# Altium schematic symbol library ICL_komponenty_v1.SchLib: 294 symbols (part 2 of 2)
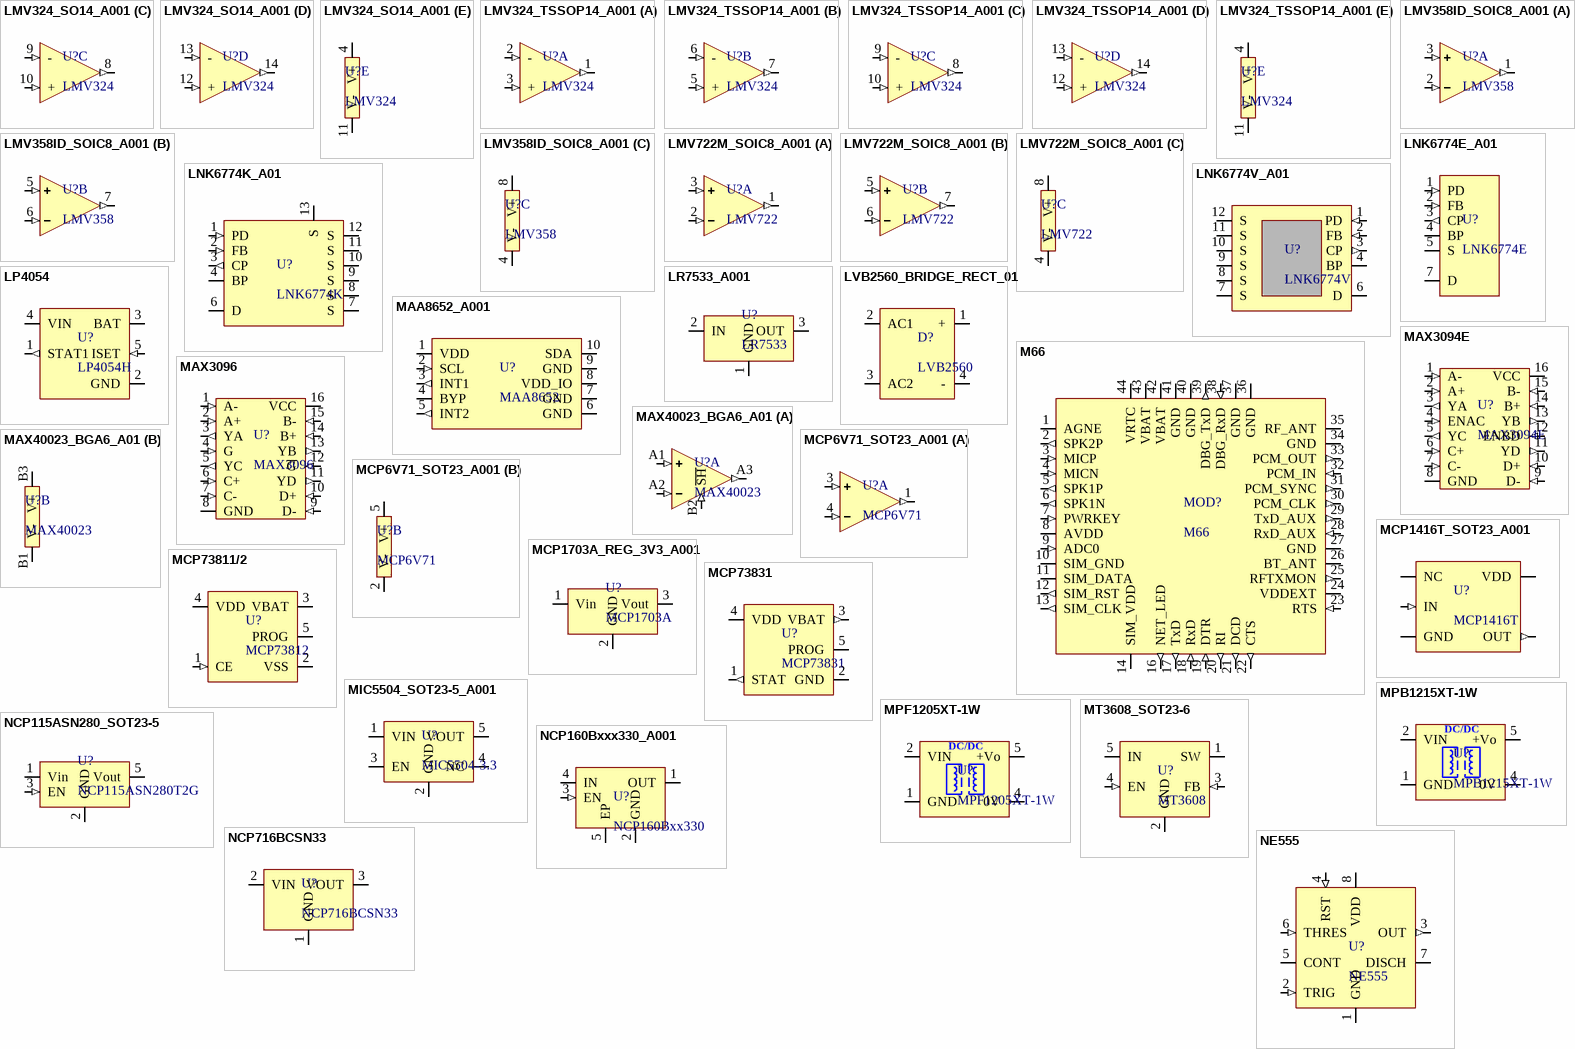
[diagram p12: symbols LMV324_SO14_A001 to NE555]

## LMV324_SO14_A001
designator U?, comment LMV324
4 x OpAmp R/R 1MHz; ICLN: IC_LMV324_SO14_A001
footprint SO-14
part A pins: 1 OUT (out), 2 - (in), 3 + (in)
part B pins: 5 + (in), 6 - (in), 7 OUT (out)
part C pins: 8 OUT (out), 9 - (in), 10 + (in)
part D pins: 12 + (in), 13 - (in), 14 OUT (out)
part E pins: 4 V+ (power), 11 V-

## LMV324_TSSOP14_A001
designator U?, comment LMV324
4 x OpAmp R/R 1MHz; ICLN: IC_LMV324_TSSOP14_A001
footprint TSSOP-14
part A pins: 1 OUT (out), 2 - (in), 3 + (in)
part B pins: 5 + (in), 6 - (in), 7 OUT (out)
part C pins: 8 OUT (out), 9 - (in), 10 + (in)
part D pins: 12 + (in), 13 - (in), 14 OUT (out)
part E pins: 4 V+ (power), 11 V-

## LMV358ID_SOIC8_A001
designator U?, comment LMV358
Low cost, low power, input/output rail-to-rail operational / amplifiers; ICLN: IC_LMV358ID_SOIC8_A001
footprint SO-8
part A pins: 1 1OUT (out), 2 1IN- (in), 3 1IN+ (in)
part B pins: 5 1IN+ (in), 6 1IN- (in), 7 1OUT (out)
part C pins: 4 V-, 8 V+ (power)

## LMV722M_SOIC8_A001
designator U?, comment LMV722
Low cost, low power, input/output rail-to-rail operational / amplifiers; ICLN: IC_LMV722N_SOIC8_A001
footprint SO-8
part A pins: 1 1OUT (out), 2 1IN- (in), 3 1IN+ (in)
part B pins: 5 1IN+ (in), 6 1IN- (in), 7 1OUT (out)
part C pins: 4 V-, 8 V+ (power)

## LNK6774E_A01
designator U?, comment LNK6774E
ICLN: IC_LNK6773E_eSOP_A001
footprint eSIP-7C
pins: 1 PD (in), 2 FB (in), 3 CP (out), 4 BP, 5 S, 7 D

## LNK6774K_A01
designator U?, comment LNK6774K
ICLN: IC_LNK6773K_eSOP_A001
footprint eSOP-12B
pins: 1 PD (in), 2 FB (in), 3 CP (out), 4 BP, 6 D, 7 S, 8 S, 9 S, 10 S, 11 S, 12 S, 13 S

## LNK6774V_A01
designator U?, comment LNK6774V
ICLN: IC_LNK6773V_eDIP_A001
footprint eDIP-12B
pins: 1 PD (in), 2 FB (in), 3 CP (out), 4 BP, 6 D, 7 S, 8 S, 9 S, 10 S, 11 S, 12 S

## LP4054
designator U?, comment LP4054H
Standalone Linear Li-Ion Battery Charger 500mA; ICLN: IC_LP4054H_SOT23-5_A001
footprint SOT-23-5
pins: 1 STAT1 (out), 2 GND, 3 BAT (power), 4 VIN (power), 5 ISET (in)

## LR7533_A001
designator U?, comment LR7533
3V3 LDO low IQ
footprint SOT89-3
pins: 1 GND, 2 IN, 3 OUT

## LVB2560_BRIDGE_RECT_01
designator D?, comment LVB2560
Bridge rect. 25A  600V; ICLN: D_DR_25A_600V_THT_GSIB-5S_A001
footprint GSIB-5S-45 (dridge rectifier 45 degry)
pins: 1 +, 2 AC1, 3 AC2, 4 -

## M66
designator MOD?
Quectel M66; ITSN: MOD_GSM_M66_A001
footprint M66
pins: 1 AGNE (power), 2 SPK2P (out), 3 MICP (in), 4 MICN (in), 5 SPK1P (out), 6 SPK1N (out), 7 PWRKEY (in), 8 AVDD (power), 9 ADC0 (in), 10 SIM_GND (power), 11 SIM_DATA (io), 12 SIM_RST (out), 13 SIM_CLK (out), 14 SIM_VDD (power), 16 NET_LED (out), 17 TxD (out), 18 RxD (in), 19 DTR (in), 20 RI (out), 21 DCD (out), 22 CTS (out), 23 RTS (in), 24 VDDEXT (power), 25 RFTXMON (out), 26 BT_ANT, 27 GND (power), 28 RxD_AUX (in), 29 TxD_AUX (out), 30 PCM_CLK (out), 31 PCM_SYNC (out), 32 PCM_IN (in), 33 PCM_OUT (out), 34 GND (power), 35 RF_ANT, 36 GND (power), 37 GND (power), 38 DBG_RxD (in), 39 DBG_TxD (out), 40 GND (power), 41 GND (power), 42 VBAT (power), 43 VBAT (power), 44 VRTC (power)

## MAA8652_A001
designator U?, comment MAA8652
ITSN: IC_KX003_LGA12_A001
footprint DFN-10_ACC (PQFN, 10-Leads, Body 2,00x2,00mm, Pitch 0,40mm, Thermal Pad 0,50x0,50mm, IPC Medium Density)
pins: 1 VDD (power), 2 SCL (in), 3 INT1 (out), 4 BYP, 5 INT2 (out), 6 GND (power), 7 GND (power), 8 VDD_IO (power), 9 GND (power), 10 SDA (io)

## MAX3094E
designator U?
RS422 3v3 SUPPLY
footprint SO-16 (SOIC, 16-Leads, Body 10,0x4,0mm (max), Pitch 1,27mm, IPC Low Density)
pins: 1 A- (in), 2 A+ (in), 3 YA (out), 4 ENAC (in), 5 YC (out), 6 C+ (in), 7 C- (in), 8 GND (power), 9 D- (in), 10 D+ (in), 11 YD (out), 12 ENBD (in), 13 YB (out), 14 B+ (in), 15 B- (in), 16 VCC (power)

## MAX3096
designator U?
RS422 3V3 SUPPLY; ICLN: IC_MAX3096_SO16_A001
footprint SO-16 (SOIC, 16-Leads, Body 10,0x4,0mm (max), Pitch 1,27mm, IPC Low Density)
pins: 1 A- (in), 2 A+ (in), 3 YA (out), 4 G (in), 5 YC (out), 6 C+ (in), 7 C- (in), 8 GND (power), 9 D- (in), 10 D+ (in), 11 YD (out), 12 ~{G} (in), 13 YB (out), 14 B+ (in), 15 B- (in), 16 VCC (power)

## MAX40023_BGA6_A01
designator U?, comment MAX40023
Low-Noise, Low-Power, Low-Bias-Current Amplifiers; ICLN: IC_MAX40023_BGA6_A01
footprint BGA-6_MAXIM
part A pins: A1 1IN+ (in), A2 1IN- (in), A3 1OUT (out), B2 ~{SH} (in)
part B pins: B1 V-, B3 V+ (power)

## MCP6V71_SOT23_A001
designator U?, comment MCP6V71
2 MHz Zero-Drift Op Amps,  Rail-to-Rail Input/Output; ICLN: IC_MCP6V71_SOT23_A001
footprint SOT-23-5
part A pins: 1 1OUT (out), 3 1IN+ (in), 4 1IN- (in)
part B pins: 2 V-, 5 V+ (power)

## MCP1416T_SOT23_A001
designator U?, comment MCP1416T
High speed power MOSFET driver; ITSN: IC_MCP1416_SOT23_A001
footprint SOT-23-5
pins: 1 NC, 2 VDD (power), 3 IN (in), 4 GND (power), 5 OUT (out)

## MCP1703A_REG_3V3_A001
designator U?, comment MCP1703A
LDO Vdrop<600mV, SOT-223, 500mA, Iq = 2uA; ITSN: IC_SPX3819_SOT23-5_A001
footprint SOT-223
pins: 1 Vin, 2 GND, 3 Vout

## MCP73811/2
designator U?, comment MCP73812
single cell Li-Ion Li-Poly linear baterry charger; ITSN: IC_MCP73812_SOT23-5_A001
footprint SOT-23-5
pins: 1 CE (in), 2 VSS (power), 3 VBAT, 4 VDD (power), 5 PROG

## MCP73831
designator U?
500 mA Li-Ion Battery Charge; ITSN: IC_MCP73831_SOT23-5_A001
footprint SOT-23-5
pins: 1 STAT (out), 2 GND (power), 3 VBAT (out), 4 VDD (power), 5 PROG

## MIC5504_SOT23-5_A001
designator U?, comment MIC5504-3.3
Multi komponent 2.2-3.3 V 100mA Iq<65uA; ITSN: IC_LIN_REG_MULTI_SOT23-5_A001
footprint SOT-23-5
pins: 1 VIN (power), 2 GND (power), 3 EN (power), 4 NC, 5 VOUT (power)

## MPB1215XT-1W
designator U?
Isolated DCDC 12V-15V; ICLN: DCDC_MPB1215XT-1W_A001
footprint MPFxxxxXT-1W (MPF MPB isolated DC-DC converter)
pins: 1 GND (power), 2 VIN (power), 4 0V (power), 5 +Vo (power)
text: DC/DC

## MPF1205XT-1W
designator U?
Isolated DCDC 12V-5V; ICLN: DCDC_MPF1205XT-1W_A001
footprint MPFxxxxXT-1W (MPF MPB isolated DC-DC converter)
pins: 1 GND (power), 2 VIN (power), 4 0V (power), 5 +Vo (power)
text: DC/DC

## MT3608_SOT23-6
designator U?, comment MT3608
Boost MT3608; ICLN: IC_MT3608_SOT23-6_A001
footprint SOT23-6 (Zetex)
pins: 1 SW, 2 GND, 3 FB (in), 4 EN (in), 5 IN

## NCP115ASN280_SOT23-5
designator U?, comment NCP115ASN280T2G
2V8 LDO; ICLN: IC_NCP115ASN280T2G_SOT32-5_A001
footprint SOT-23-5
pins: 1 Vin, 2 GND, 3 EN (in), 5 Vout

## NCP160Bxxx330_A001
designator U?, comment NCP160Bxx330
Low drop low noise LDO 3V3; ICLN: IC_NCP160BFCS330_A001
footprint XDFN4
pins: 1 OUT (power), 2 GND, 3 EN (in), 4 IN (power), 5 EP

## NCP716BCSN33
designator U?
ICLN: IC_NCP716BCSN33_SOT23-5_A001
footprint SOT-23-5
pins: 1 GND (power), 2 VIN (power), 3 VOUT (power)

## NE555
designator U?
ITSN: IC_NE555_SO8_A001
footprint SO-8
pins: 1 GND (power), 2 TRIG (in), 3 OUT (out), 4 RST (in), 5 CONT, 6 THRES (in), 7 DISCH (oc), 8 VDD (power)

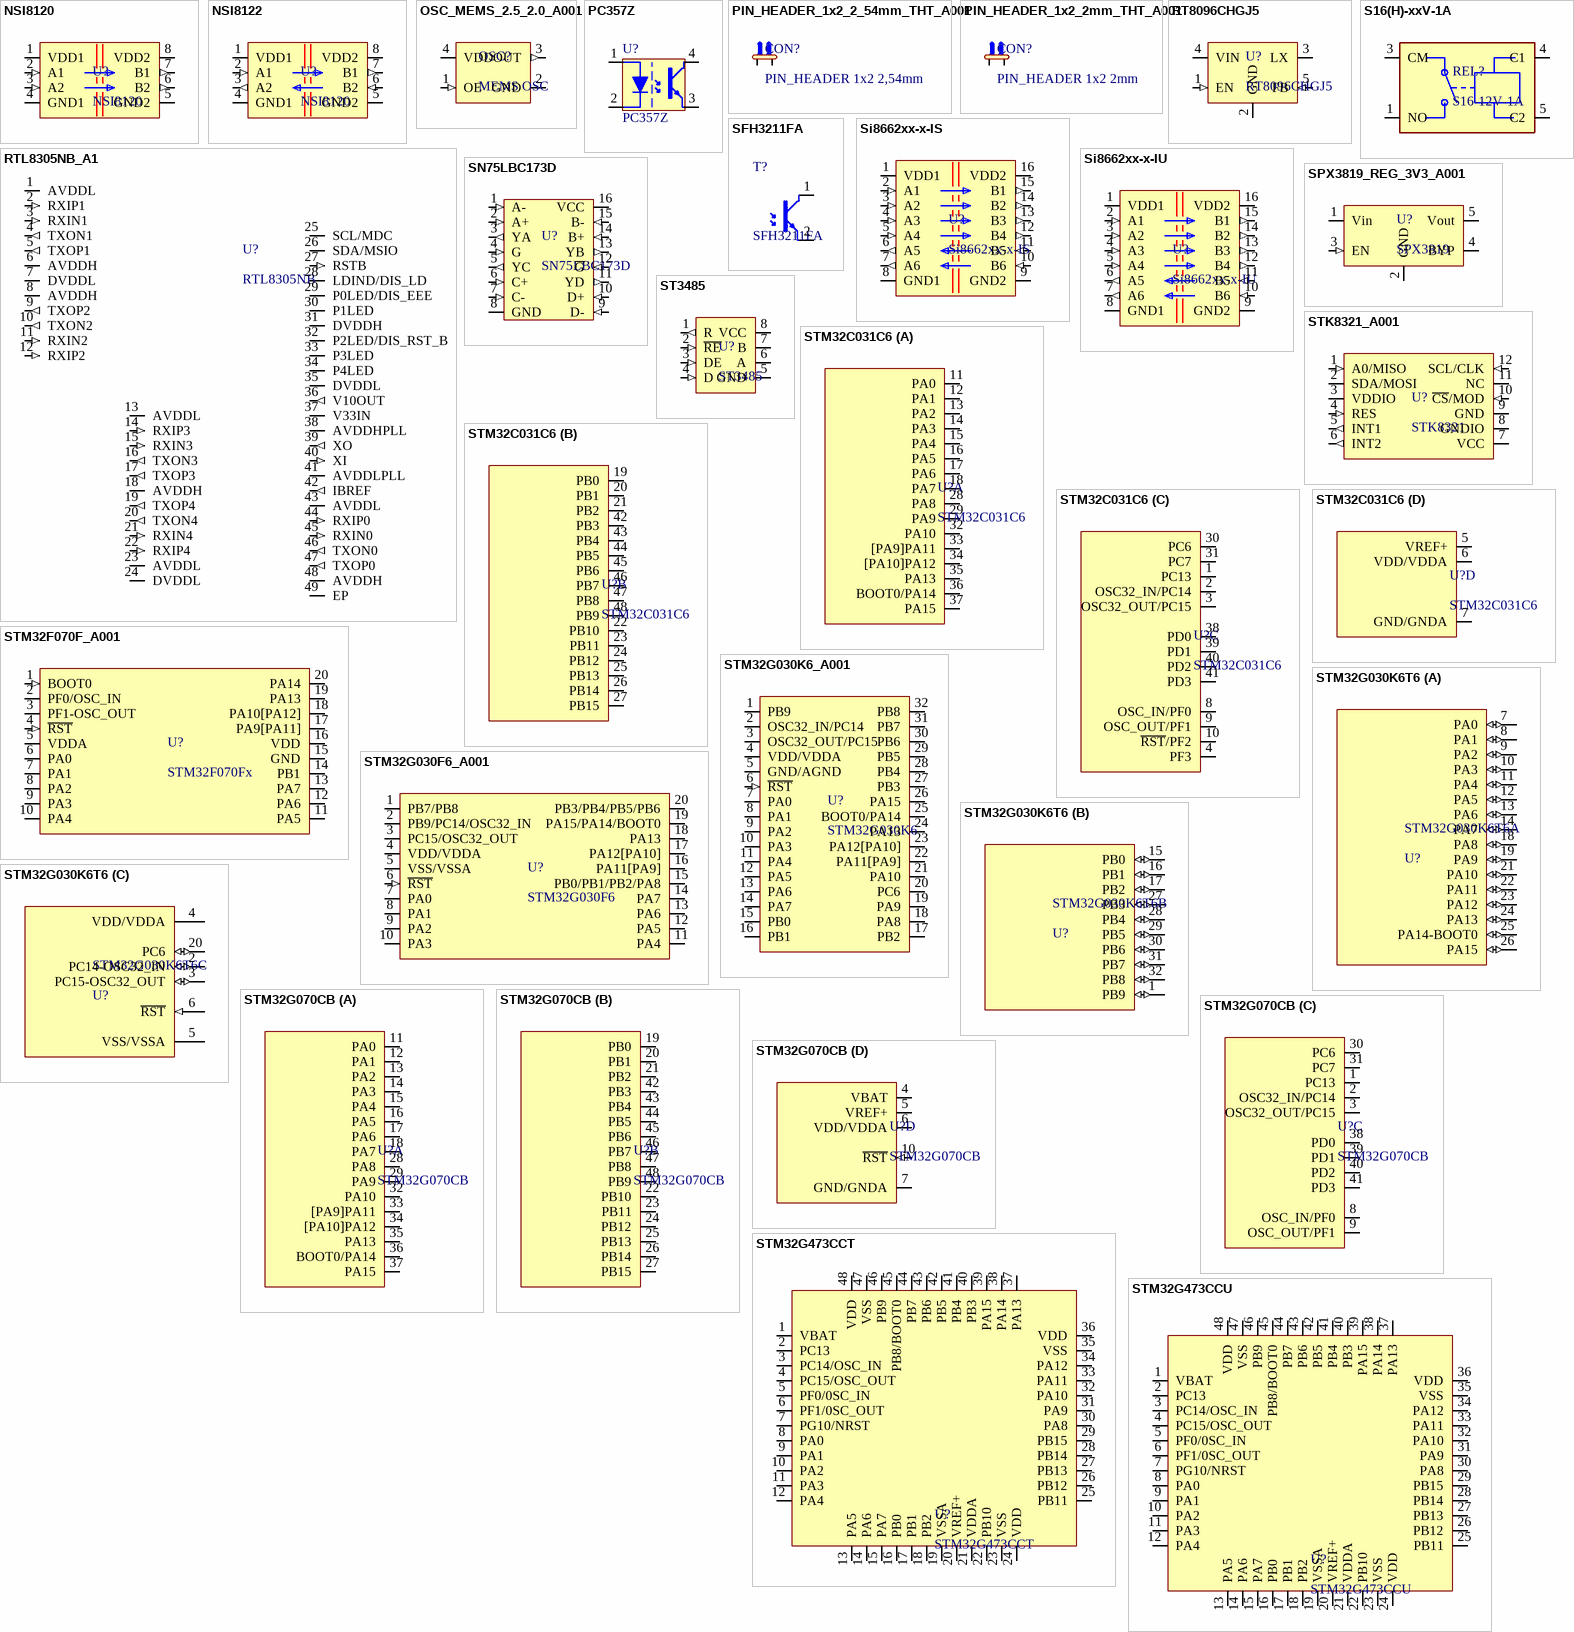
[diagram p8: symbols NSI8120 to STM32G473CCU]

## NSI8120
designator U?
2 channel iso; ICLN: IC_NSI8120_SO-8_A001
footprint SO-8
pins: 1 VDD1 (power), 2 A1 (in), 3 A2 (in), 4 GND1 (power), 5 GND2 (power), 6 B2 (out), 7 B1 (out), 8 VDD2 (power)

## NSI8122
designator U?, comment NSI8120
2 channel iso; ICLN: IC_NSI8122_SO-8_A001
footprint SO-8
pins: 1 VDD1 (power), 2 A1 (in), 3 A2 (out), 4 GND1 (power), 5 GND2 (power), 6 B2 (in), 7 B1 (out), 8 VDD2 (power)

## OSC_MEMS_2.5_2.0_A001
designator OSC?, comment MEMS OSC
ITSN: MEMS_OSC_8MHZ_A001
footprint MEMS_OSC_2.5_3-2_2.5_v1 (mems oscilator 2.5x2 or 3.2x2.5)
pins: 1 OE (in), 2 GND (power), 3 OUT (out), 4 VDD (power)

## PC357Z
designator U?
ITSN: OCT_PC357_SMD_A001
footprint Mini-Flat_4
pins: 1 A, 2 K, 3 E, 4 C

## PIN_HEADER_1x2_2_54mm_THT_A001
designator CON?, comment PIN_HEADER 1x2 2,54mm
footprint PIN_HEADER_1x2_2.54_THT_A001
pins: 1, 2

## PIN_HEADER_1x2_2mm_THT_A001
designator CON?, comment PIN_HEADER 1x2 2mm
footprint PIN_HEADER_1x2_2_THT_A001
pins: 1, 2

## RT8096CHGJ5
designator U?
DCDC step down 6V; ICLN: IC_RT8096CHGJ5_SOT23-5_A001
footprint SOT-23-5
pins: 1 EN (in), 2 GND, 3 LX, 4 VIN, 5 FB (in)

## RTL8305NB_A1
designator U?, comment RTL8305NB
Single-chip 5-port 1-/100M ethernet switch controller
pins: 1 AVDDL (power), 2 RXIP1 (in), 3 RXIN1 (in), 4 TXON1 (out), 5 TXOP1 (out), 6 AVDDH (power), 7 DVDDL (power), 8 AVDDH (power), 9 TXOP2 (out), 10 TXON2 (out), 11 RXIN2 (in), 12 RXIP2 (in), 13 AVDDL (power), 14 RXIP3 (in), 15 RXIN3 (in), 16 TXON3 (out), 17 TXOP3 (out), 18 AVDDH (power), 19 TXOP4 (out), 20 TXON4 (out), 21 RXIN4 (in), 22 RXIP4 (in), 23 AVDDL (power), 24 DVDDL (power), 25 SCL/MDC (io), 26 SDA/MSIO (io), 27 RSTB (in), 28 LDIND/DIS_LD (io), 29 P0LED/DIS_EEE (io), 30 P1LED (io), 31 DVDDH (power), 32 P2LED/DIS_RST_B (io), 33 P3LED (io), 34 P4LED (io), 35 DVDDL (power), 36 V10OUT (out), 37 V33IN (power), 38 AVDDHPLL (power), 39 XO (out), 40 XI (in), 41 AVDDLPLL (power), 42 IBREF (out), 43 AVDDL (power), 44 RXIP0 (in), 45 RXIN0 (in), 46 TXON0 (out), 47 TXOP0 (out), 48 AVDDH (power), 49 EP

## S16(H)-xxV-1A
designator REL?, comment S16-12V-1A
Automotive relay S16 70A(150A); ICLN: REL_001A
footprint S16-xx-1A_RELAY (Automotive Relay 80A NO)
pins: 1 NO, 3 CM, 4 C1, 5 C2

## SFH3211FA
designator T?
phototransistor PLCC reverse mounting; ITSN: nn
footprint PLCC_RG (reverse mounting PLCC)
pins: 1 C, 2 E

## Si8662xx-x-IS
designator U?
ITSN: IC_SI8662_SOIC16_A001
footprint SOIC-16 (SOIC, 16-Leads, Body 10,0x4,0mm (max), Pitch 1,27mm, IPC Low Density)
pins: 1 VDD1 (power), 2 A1 (in), 3 A2 (in), 4 A3 (in), 5 A4 (in), 6 A5 (out), 7 A6 (out), 8 GND1 (power), 9 GND2 (power), 10 B6 (in), 11 B5 (in), 12 B4 (out), 13 B3 (out), 14 B2 (out), 15 B1 (out), 16 VDD2 (power)

## Si8662xx-x-IU
designator U?
ITSN: IC_SI8662_SO16_A001
footprint SO-16-W
pins: 1 VDD1 (power), 2 A1 (in), 3 A2 (in), 4 A3 (in), 5 A4 (in), 6 A5 (out), 7 A6 (out), 8 GND1 (power), 9 GND2 (power), 10 B6 (in), 11 B5 (in), 12 B4 (out), 13 B3 (out), 14 B2 (out), 15 B1 (out), 16 VDD2 (power)

## SN75LBC173D
designator U?
RS422 5V SUPPLY; ICLN: IC_SN75LBC173D_SO16_A001
footprint SO-16 (SOIC, 16-Leads, Body 10,0x4,0mm (max), Pitch 1,27mm, IPC Low Density)
pins: 1 A- (in), 2 A+ (in), 3 YA (out), 4 G (in), 5 YC (out), 6 C+ (in), 7 C- (in), 8 GND (power), 9 D- (in), 10 D+ (in), 11 YD (out), 12 ~{G} (in), 13 YB (out), 14 B+ (in), 15 B- (in), 16 VCC (power)

## SPX3819_REG_3V3_A001
designator U?, comment SPX3819
LDO Vdrop<600mV, SOT23-5, 500mA; ITSN: IC_SPX3819_SOT23-5_A001
footprint SOT-23-5
pins: 1 Vin, 2 GND, 3 EN (in), 4 BYP, 5 Vout

## ST3485
designator U?
ST3485 3V3; ICLN: IC_ST3485_SO-8_A001
footprint SO-8
pins: 1 R (out), 2 ~{RE} (in), 3 DE (in), 4 D (in), 5 GND (power), 6 A, 7 B, 8 VCC (power)

## STK8321_A001
designator U?, comment STK8321
ICLN: na
footprint LGA-12 (LGA, 12-Leads, Body 2,00x2,00mmx0,70mm, Pitch 0,50mm)
pins: 1 A0/MISO (in), 2 SDA/MOSI (io), 3 VDDIO (power), 4 RES (in), 5 INT1 (out), 6 INT2 (out), 7 VCC (power), 8 GNDIO (power), 9 GND (power), 10 ~{CS}/MOD (in), 11 NC, 12 SCL/CLK (in)

## STM32C031C6
designator U?
cortex M0+ 32k//12k; ICLN: *
footprint LQFP48
part A pins: 11 PA0 (io), 12 PA1 (io), 13 PA2 (io), 14 PA3 (io), 15 PA4 (io), 16 PA5 (io), 17 PA6 (io), 18 PA7 (io), 28 PA8 (io), 29 PA9 (io), 32 PA10 (io), 33 [PA9]PA11 (io), 34 [PA10]PA12 (io), 35 PA13 (io), 36 BOOT0/PA14 (io), 37 PA15 (io)
part B pins: 19 PB0 (io), 20 PB1 (io), 21 PB2 (io), 22 PB10 (io), 23 PB11 (io), 24 PB12 (io), 25 PB13 (io), 26 PB14 (io), 27 PB15 (io), 42 PB3 (io), 43 PB4 (io), 44 PB5 (io), 45 PB6 (io), 46 PB7 (io), 47 PB8 (io), 48 PB9 (io)
part C pins: 1 PC13 (io), 2 OSC32_IN/PC14 (io), 3 OSC32_OUT/PC15 (io), 4 PF3 (io), 8 OSC_IN/PF0 (io), 9 OSC_OUT/PF1 (io), 10 ~{RST}/PF2 (io), 30 PC6 (io), 31 PC7 (io), 38 PD0 (io), 39 PD1 (io), 40 PD2 (io), 41 PD3 (io)
part D pins: 5 VREF+ (power), 6 VDD/VDDA (power), 7 GND/GNDA (power)

## STM32F070F_A001
designator U?, comment STM32F070Fx
STM32F070Fx TSSOP20 32k/6k; ITSN: *
footprint TSSOP-20
pins: 1 BOOT0 (in), 2 PF0/OSC_IN (io), 3 PF1-OSC_OUT (io), 4 ~{RST} (in), 5 VDDA (power), 6 PA0 (io), 7 PA1 (io), 8 PA2 (io), 9 PA3 (io), 10 PA4 (io), 11 PA5 (io), 12 PA6 (io), 13 PA7 (io), 14 PB1 (io), 15 GND (power), 16 VDD (power), 17 PA9[PA11] (io), 18 PA10[PA12] (io), 19 PA13 (io), 20 PA14 (io)

## STM32G030F6_A001
designator U?, comment STM32G030F6
STN32G030F6 TSSOP20 32k/8k; ICLN: IC_STM32G030F6_TSSOP20_A001
footprint TSSOP-20
pins: 1 PB7/PB8 (io), 2 PB9/PC14/OSC32_IN (io), 3 PC15/OSC32_OUT (io), 4 VDD/VDDA (power), 5 VSS/VSSA (power), 6 ~{RST} (in), 7 PA0 (io), 8 PA1 (io), 9 PA2 (io), 10 PA3 (io), 11 PA4 (io), 12 PA5 (io), 13 PA6 (io), 14 PA7 (io), 15 PB0/PB1/PB2/PA8 (io), 16 PA11[PA9] (io), 17 PA12[PA10] (io), 18 PA13 (io), 19 PA15/PA14/BOOT0 (io), 20 PB3/PB4/PB5/PB6 (io)

## STM32G030K6_A001
designator U?, comment STM32G030K6
STM32G030K6 32k/8k 32pin; ITSN: IC_STM32G030K6_LQFP32_A001
footprint LQFP32_A002 (TQFP, 32-Leads, Body 7,00x7,00mm, Pitch 0,80mm, IPC Low Density)
pins: 1 PB9 (io), 2 OSC32_IN/PC14 (io), 3 OSC32_OUT/PC15 (io), 4 VDD/VDDA (power), 5 GND/AGND (power), 6 ~{RST} (in), 7 PA0 (io), 8 PA1 (io), 9 PA2 (io), 10 PA3 (io), 11 PA4 (io), 12 PA5 (io), 13 PA6 (io), 14 PA7 (io), 15 PB0 (io), 16 PB1 (io), 17 PB2 (io), 18 PA8 (io), 19 PA9 (io), 20 PC6 (io), 21 PA10 (io), 22 PA11[PA9] (io), 23 PA12[PA10] (io), 24 PA13 (io), 25 BOOT0/PA14 (io), 26 PA15 (io), 27 PB3 (io), 28 PB4 (io), 29 PB5 (io), 30 PB6 (io), 31 PB7 (io), 32 PB8 (io)

## STM32G030K6T6
designator STM32G030K6T6, comment U?
Flash: 32kB; 64MHz; SRAM: 8kB; LQFP32; 2÷3,6VDC; ITSN: IC_STM32G030K6_LQFP32_A001
footprint LQFP32 (TQFP, 32-Leads, Body 7,00x7,00mm, Pitch 0,80mm, IPC Low Density)
part A pins: 7 PA0 (io), 8 PA1 (io), 9 PA2 (io), 10 PA3 (io), 11 PA4 (io), 12 PA5 (io), 13 PA6 (io), 14 PA7 (io), 18 PA8 (io), 19 PA9 (io), 21 PA10 (io), 22 PA11 (io), 23 PA12 (io), 24 PA13 (io), 25 PA14-BOOT0 (io), 26 PA15 (io)
part B pins: 1 PB9 (io), 15 PB0 (io), 16 PB1 (io), 17 PB2 (io), 27 PB3 (io), 28 PB4 (io), 29 PB5 (io), 30 PB6 (io), 31 PB7 (io), 32 PB8 (io)
part C pins: 2 PC14-OSC32_IN (io), 3 PC15-OSC32_OUT (io), 4 VDD/VDDA (power), 5 VSS/VSSA (power), 6 ~{RST} (in), 20 PC6 (io)

## STM32G070CB
designator U?
ITSN: *
footprint LQFP48
part A pins: 11 PA0 (io), 12 PA1 (io), 13 PA2 (io), 14 PA3 (io), 15 PA4 (io), 16 PA5 (io), 17 PA6 (io), 18 PA7 (io), 28 PA8 (io), 29 PA9 (io), 32 PA10 (io), 33 [PA9]PA11 (io), 34 [PA10]PA12 (io), 35 PA13 (io), 36 BOOT0/PA14 (io), 37 PA15 (io)
part B pins: 19 PB0 (io), 20 PB1 (io), 21 PB2 (io), 22 PB10 (io), 23 PB11 (io), 24 PB12 (io), 25 PB13 (io), 26 PB14 (io), 27 PB15 (io), 42 PB3 (io), 43 PB4 (io), 44 PB5 (io), 45 PB6 (io), 46 PB7 (io), 47 PB8 (io), 48 PB9 (io)
part C pins: 1 PC13 (io), 2 OSC32_IN/PC14 (io), 3 OSC32_OUT/PC15 (io), 8 OSC_IN/PF0 (io), 9 OSC_OUT/PF1 (io), 30 PC6 (io), 31 PC7 (io), 38 PD0 (io), 39 PD1 (io), 40 PD2 (io), 41 PD3 (io)
part D pins: 4 VBAT (power), 5 VREF+ (power), 6 VDD/VDDA (power), 7 GND/GNDA (power), 10 ~{RST} (in)

## STM32G473CCT
designator U?
footprint LQFP48
pins: 1 VBAT (power), 2 PC13 (io), 3 PC14/OSC_IN (io), 4 PC15/OSC_OUT (io), 5 PF0/0SC_IN (io), 6 PF1/0SC_OUT (io), 7 PG10/NRST (io), 8 PA0 (io), 9 PA1 (io), 10 PA2 (io), 11 PA3 (io), 12 PA4 (io), 13 PA5 (io), 14 PA6 (io), 15 PA7 (io), 16 PB0 (io), 17 PB1 (io), 18 PB2 (io), 19 VSSA (power), 20 VREF+ (power), 21 VDDA (power), 22 PB10 (io), 23 VSS (power), 24 VDD (power), 25 PB11 (io), 26 PB12 (io), 27 PB13 (io), 28 PB14 (io), 29 PB15 (io), 30 PA8 (io), 31 PA9 (io), 32 PA10 (io), 33 PA11 (io), 34 PA12 (io), 35 VSS (power), 36 VDD (power), 37 PA13 (io), 38 PA14 (io), 39 PA15 (io), 40 PB3 (io), 41 PB4 (io), 42 PB5 (io), 43 PB6 (io), 44 PB7 (io), 45 PB8/BOOT0 (io), 46 PB9 (io), 47 VSS (power), 48 VDD (power)

## STM32G473CCU
designator U?
footprint LQFP48
pins: 1 VBAT (power), 2 PC13 (io), 3 PC14/OSC_IN (io), 4 PC15/OSC_OUT (io), 5 PF0/0SC_IN (io), 6 PF1/0SC_OUT (io), 7 PG10/NRST (io), 8 PA0 (io), 9 PA1 (io), 10 PA2 (io), 11 PA3 (io), 12 PA4 (io), 13 PA5 (io), 14 PA6 (io), 15 PA7 (io), 16 PB0 (io), 17 PB1 (io), 18 PB2 (io), 19 VSSA (power), 20 VREF+ (power), 21 VDDA (power), 22 PB10 (io), 23 VSS (power), 24 VDD (power), 25 PB11 (io), 26 PB12 (io), 27 PB13 (io), 28 PB14 (io), 29 PB15 (io), 30 PA8 (io), 31 PA9 (io), 32 PA10 (io), 33 PA11 (io), 34 PA12 (io), 35 VSS (power), 36 VDD (power), 37 PA13 (io), 38 PA14 (io), 39 PA15 (io), 40 PB3 (io), 41 PB4 (io), 42 PB5 (io), 43 PB6 (io), 44 PB7 (io), 45 PB8/BOOT0 (io), 46 PB9 (io), 47 VSS (power), 48 VDD (power)

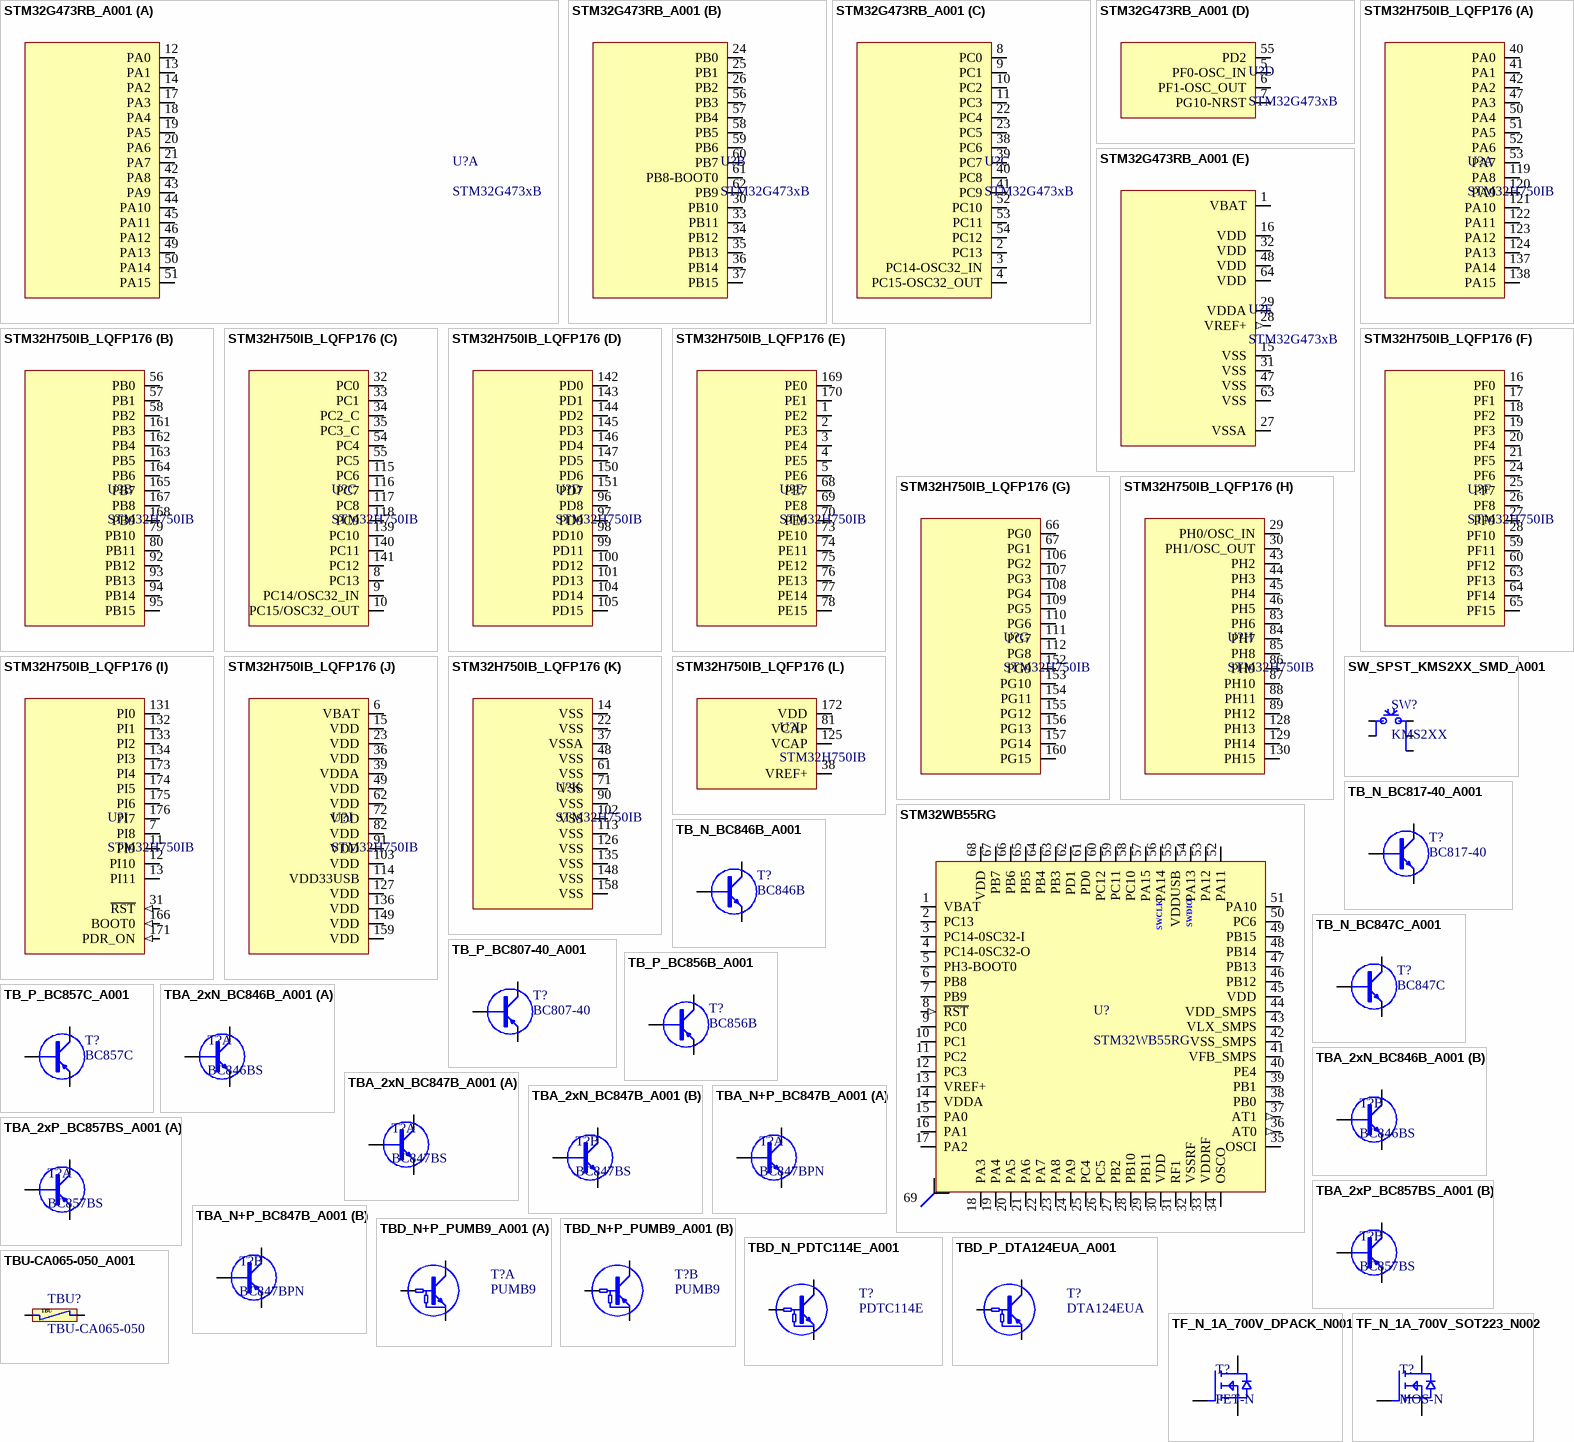
[diagram p9: symbols STM32G473RB_A001 to TF_N_1A_700V_SOT223_N002]

## STM32G473RB_A001
designator U?, comment STM32G473xB
ITSN: IC_STM32G473RB_A001
footprint LQFP64 (TSQFP, 64-Leads, Body 10,00x10,00mm, Pitch 0,50mm)
part A pins: 12 PA0 (io), 13 PA1 (io), 14 PA2 (io), 17 PA3 (io), 18 PA4 (io), 19 PA5 (io), 20 PA6 (io), 21 PA7 (io), 42 PA8 (io), 43 PA9 (io), 44 PA10 (io), 45 PA11 (io), 46 PA12 (io), 49 PA13 (io), 50 PA14 (io), 51 PA15 (io)
part B pins: 24 PB0 (io), 25 PB1 (io), 26 PB2 (io), 30 PB10 (io), 33 PB11 (io), 34 PB12 (io), 35 PB13 (io), 36 PB14 (io), 37 PB15 (io), 56 PB3 (io), 57 PB4 (io), 58 PB5 (io), 59 PB6 (io), 60 PB7 (io), 61 PB8-BOOT0 (io), 62 PB9 (io)
part C pins: 2 PC13 (io), 3 PC14-OSC32_IN (io), 4 PC15-OSC32_OUT (io), 8 PC0 (io), 9 PC1 (io), 10 PC2 (io), 11 PC3 (io), 22 PC4 (io), 23 PC5 (io), 38 PC6 (io), 39 PC7 (io), 40 PC8 (io), 41 PC9 (io), 52 PC10 (io), 53 PC11 (io), 54 PC12 (io)
part D pins: 5 PF0-OSC_IN (io), 6 PF1-OSC_OUT (io), 7 PG10-NRST (io), 55 PD2 (io)
part E pins: 1 VBAT (power), 15 VSS (power), 16 VDD (power), 27 VSSA (power), 28 VREF+ (out), 29 VDDA (power), 31 VSS (power), 32 VDD (power), 47 VSS (power), 48 VDD (power), 63 VSS (power), 64 VDD (power)

## STM32H750IB_LQFP176
designator U?, comment STM32H750IB
STM32H750IB LQFP176; ITSN: IC_STM32H750IB_LQFP176_A001
footprint LQFP176
part A pins: 40 PA0 (io), 41 PA1 (io), 42 PA2 (io), 47 PA3 (io), 50 PA4 (io), 51 PA5 (io), 52 PA6 (io), 53 PA7 (io), 119 PA8 (io), 120 PA9 (io), 121 PA10 (io), 122 PA11 (io), 123 PA12 (io), 124 PA13 (io), 137 PA14 (io), 138 PA15 (io)
part B pins: 56 PB0 (io), 57 PB1 (io), 58 PB2 (io), 79 PB10 (io), 80 PB11 (io), 92 PB12 (io), 93 PB13 (io), 94 PB14 (io), 95 PB15 (io), 161 PB3 (io), 162 PB4 (io), 163 PB5 (io), 164 PB6 (io), 165 PB7 (io), 167 PB8 (io), 168 PB9 (io)
part C pins: 8 PC13 (io), 9 PC14/OSC32_IN (io), 10 PC15/OSC32_OUT (io), 32 PC0 (io), 33 PC1 (io), 34 PC2_C (io), 35 PC3_C (io), 54 PC4 (io), 55 PC5 (io), 115 PC6 (io), 116 PC7 (io), 117 PC8 (io), 118 PC9 (io), 139 PC10 (io), 140 PC11 (io), 141 PC12 (io)
part D pins: 96 PD8 (io), 97 PD9 (io), 98 PD10 (io), 99 PD11 (io), 100 PD12 (io), 101 PD13 (io), 104 PD14 (io), 105 PD15 (io), 142 PD0 (io), 143 PD1 (io), 144 PD2 (io), 145 PD3 (io), 146 PD4 (io), 147 PD5 (io), 150 PD6 (io), 151 PD7 (io)
part E pins: 1 PE2 (io), 2 PE3 (io), 3 PE4 (io), 4 PE5 (io), 5 PE6 (io), 68 PE7 (io), 69 PE8 (io), 70 PE9 (io), 73 PE10 (io), 74 PE11 (io), 75 PE12 (io), 76 PE13 (io), 77 PE14 (io), 78 PE15 (io), 169 PE0 (io), 170 PE1 (io)
part F pins: 16 PF0 (io), 17 PF1 (io), 18 PF2 (io), 19 PF3 (io), 20 PF4 (io), 21 PF5 (io), 24 PF6 (io), 25 PF7 (io), 26 PF8 (io), 27 PF9 (io), 28 PF10 (io), 59 PF11 (io), 60 PF12 (io), 63 PF13 (io), 64 PF14 (io), 65 PF15 (io)
part G pins: 66 PG0 (io), 67 PG1 (io), 106 PG2 (io), 107 PG3 (io), 108 PG4 (io), 109 PG5 (io), 110 PG6 (io), 111 PG7 (io), 112 PG8 (io), 152 PG9 (io), 153 PG10 (io), 154 PG11 (io), 155 PG12 (io), 156 PG13 (io), 157 PG14 (io), 160 PG15 (io)
part H pins: 29 PH0/OSC_IN (io), 30 PH1/OSC_OUT (io), 43 PH2 (io), 44 PH3 (io), 45 PH4 (io), 46 PH5 (io), 83 PH6 (io), 84 PH7 (io), 85 PH8 (io), 86 PH9 (io), 87 PH10 (io), 88 PH11 (io), 89 PH12 (io), 128 PH13 (io), 129 PH14 (io), 130 PH15 (io)
part I pins: 7 PI8 (io), 11 PI9 (io), 12 PI10 (io), 13 PI11 (io), 31 ~{RST} (in), 131 PI0 (io), 132 PI1 (io), 133 PI2 (io), 134 PI3 (io), 166 BOOT0 (in), 171 PDR_ON (in), 173 PI4 (io), 174 PI5 (io), 175 PI6 (io), 176 PI7 (io)
part J pins: 6 VBAT (power), 15 VDD (power), 23 VDD (power), 36 VDD (power), 39 VDDA (power), 49 VDD (power), 62 VDD (power), 72 VDD (power), 82 VDD (power), 91 VDD (power), 103 VDD (power), 114 VDD33USB (power), 127 VDD (power), 136 VDD (power), 149 VDD (power), 159 VDD (power)
part K pins: 14 VSS (power), 22 VSS (power), 37 VSSA (power), 48 VSS (power), 61 VSS (power), 71 VSS (power), 90 VSS (power), 102 VSS (power), 113 VSS (power), 126 VSS (power), 135 VSS (power), 148 VSS (power), 158 VSS (power)
part L pins: 38 VREF+, 81 VCAP, 125 VCAP, 172 VDD (power)

## STM32WB55RG
designator U?
ICLN: IC_STM32WB55RG_VFQFPN68_A001
footprint VFQFPN68 (STM QFN 68 E 0.4MM)
pins: 1 VBAT, 2 PC13 (io), 3 PC14-0SC32-I (io), 4 PC14-0SC32-O (io), 5 PH3-BOOT0 (io), 6 PB8 (io), 7 PB9 (io), 8 ~{RST} (in), 9 PC0 (io), 10 PC1 (io), 11 PC2 (io), 12 PC3 (io), 13 VREF+ (power), 14 VDDA (power), 15 PA0 (io), 16 PA1 (io), 17 PA2 (io), 18 PA3 (io), 19 PA4 (io), 20 PA5 (io), 21 PA6 (io), 22 PA7 (io), 23 PA8 (io), 24 PA9 (io), 25 PC4 (io), 26 PC5 (io), 27 PB2 (io), 28 PB10 (io), 29 PB11 (io), 30 VDD (power), 31 RF1, 32 VSSRF (power), 33 VDDRF (power), 34 OSCO, 35 OSCI, 36 AT0 (out), 37 AT1 (out), 38 PB0 (io), 39 PB1 (io), 40 PE4 (io), 41 VFB_SMPS, 42 VSS_SMPS, 43 VLX_SMPS, 44 VDD_SMPS, 45 VDD (power), 46 PB12 (io), 47 PB13 (io), 48 PB14 (io), 49 PB15 (io), 50 PC6 (io), 51 PA10 (io), 52 PA11 (io), 53 PA12 (io), 54 PA13 (io), 55 VDDUSB (power), 56 PA14 (io), 57 PA15 (io), 58 PC10 (io), 59 PC11 (io), 60 PC12 (io), 61 PD0 (io), 62 PD1 (io), 63 PB3 (io), 64 PB4 (io), 65 PB5 (io), 66 PB6 (io), 67 PB7 (io), 68 VDD (power), 69 EP
text: SWCLK; SWDIO

## SW_SPST_KMS2XX_SMD_A001
designator SW?, comment KMS2XX
microswitch kontowy SMT; ITSN: SW_SPST_KMS2XX_ANG_SMD_A001
footprint KMS_EVQP_A001 (microwsitch SMD angle)
pins: 1, 2, 3, 4, 5

## TB_N_BC817-40_A001
designator T?, comment BC817-40
NPN BC817-40; ICLN: TB_N_BC817-40_SOT23_A001
footprint SOT-23
pins: 1 B, 2 E, 3 C

## TB_N_BC846B_A001
designator T?, comment BC846B
NPN BC846B 65V 100mA; ICLN: TB_N_BC846B_SOT323_A001
footprint SOT323
pins: 1 B, 2 E, 3 C

## TB_N_BC847C_A001
designator T?, comment BC847C
NPN BC847C; ITSN: TB_N_BC847C_SOT323_A001
footprint SOT323
pins: 1 B, 2 E, 3 C

## TB_P_BC807-40_A001
designator T?, comment BC807-40
PNP BC807-40; ICLN: TB_P_BC807-40_SOT23_A001
footprint SOT-23
pins: 1 B, 2 E, 3 C

## TB_P_BC856B_A001
designator T?, comment BC856B
PNP BC856B 65V 100mA; ICLN: TB_P_BC856B_SOT323_A001
footprint SOT323
pins: 1 B, 2 E, 3 C

## TB_P_BC857C_A001
designator T?, comment BC857C
PNP BC857C; ITSN: TB_P_BC857C_SOT323_A001
footprint SOT323
pins: 1 B, 2 E, 3 C

## TBA_2xN_BC846B_A001
designator T?, comment BC846BS
BC846BS 2 x NPN 65V 100mA; ICLN: TBA_2xN_BC846B_SOT363_A001
footprint SOT363
part A pins: 1 E1, 2 B1, 6 C1
part B pins: 3 C2, 4 E2, 5 B2

## TBA_2xN_BC847B_A001
designator T?, comment BC847BS
BC847BS 2 x NPN; ICLN: TBA_2xN_BC847B_SOT363_A001
footprint SOT363
part A pins: 1 E1, 2 B1, 6 C1
part B pins: 3 C2, 4 E2, 5 B2

## TBA_2xP_BC857BS_A001
designator T?, comment BC857BS
BC857BS 2 x PNP; ITSN: TBA_2xP_BC857B_SOT363_A001
footprint SOT363
part A pins: 1 E1, 2 B1, 6 C1
part B pins: 3 C2, 4 E2, 5 B2

## TBA_N+P_BC847B_A001
designator T?, comment BC847BPN
BC847BPN  PNP + NPN; ICLN: TBA_N+P_BC847B_SOT363_A001
footprint SOT363
part A pins: 1 En, 2 Bn, 6 Cn
part B pins: 3 Cp, 4 Ep, 5 Bp

## TBD_N+P_PUMB9_A001
designator T?, comment PUMB9
NPN + PNP resistor-equipped transistors 4k7/10k SOT323; ITSN: TBD_N+P_PUMB9_SOT363_A001
footprint SOT363
part A pins: 1 E1, 2 B1, 6 C1
part B pins: 3 C2, 4 E2, 5 B2

## TBD_N_PDTC114E_A001
designator T?, comment PDTC114E
NPN resistor-equipped transistors 4k7/10k SOT323; ICLN: TBD_N_PDTC114Y_SOT323_A001
footprint SOT323
pins: 1 B, 2 E, 3 C

## TBD_P_DTA124EUA_A001
designator T?, comment DTA124EUA
PNP resistor-equipped transistors 22k/22k SOT323; ITSN: TBD_P_DTA124EUA_SOT323_A001
footprint SOT323
pins: 1 B, 2 E, 3 C

## TBU-CA065-050_A001
designator TBU?, comment TBU-CA065-050
TBU 650V 50mA; ITSN: TBU_CA065_050_A001
footprint TBU-CA_v1 (TBU single Bourns)
pins: 1, 3
text: TBU

## TF_N_1A_700V_DPACK_N001
designator T?, comment FET-N
Multi part DPACK; ICLN: TF_N_1A_700V_TO252_N001
footprint DPAK_v1 (D-PAK, 3-Pads, Body 6,20x6,72mm (max), IPC Low Density)
pins: 1 G, 2 D, 3 S

## TF_N_1A_700V_SOT223_N002
designator T?, comment MOS-N
Multi part 1A/700V; ICLN: TF_N_1A_700V_SOT223_N002
footprint SOT-223-3
pins: 1 G, 2 D, 3 S

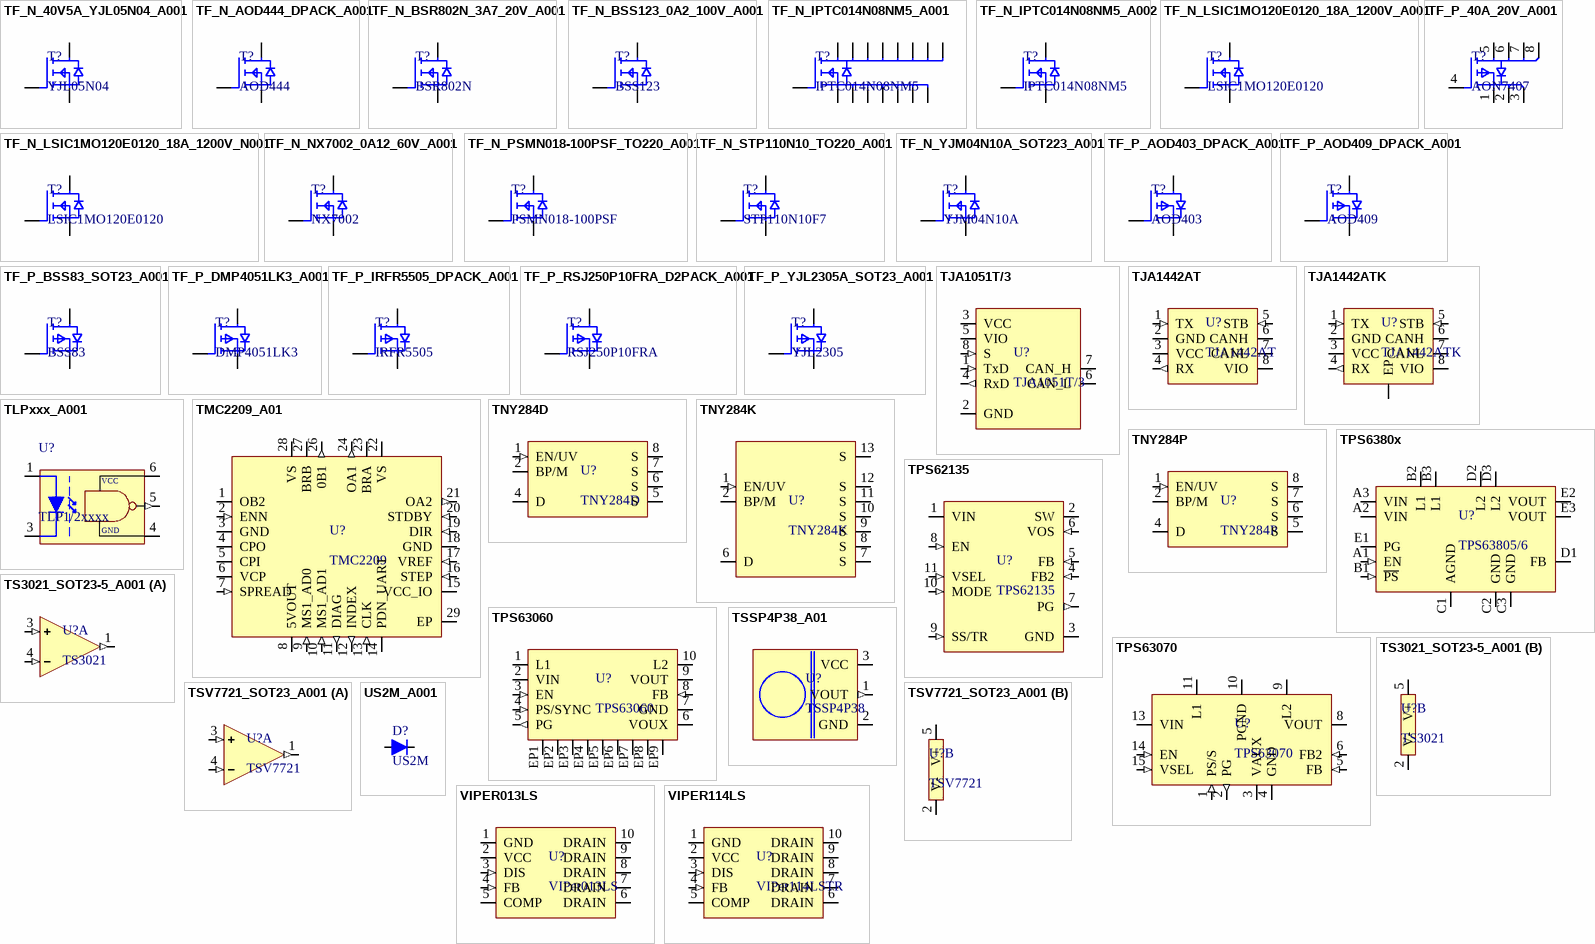
[diagram p10: symbols TF_N_40V5A_YJL05N04_A001 to VIPER114LS]

## TF_N_40V5A_YJL05N04_A001
designator T?, comment YJL05N04
N-Channel 40-V 5A Lo VgsTH Sot23; ITSN: TF_N_40V_5A_SOT23_A001
footprint SOT-23
pins: 1 G, 2 S, 3 D

## TF_N_AOD444_DPACK_A001
designator T?, comment AOD444
60V/12A 60mOhmm DPACK; ITSN: TF_N_AOD444_DPACK_A001
footprint DPAK_v1 (D-PAK, 3-Pads, Body 6,20x6,72mm (max), IPC Low Density)
pins: 1 G, 2 D, 3 S

## TF_N_BSR802N_3A7_20V_A001
designator T?, comment BSR802N
MOSFET-N 3A7 20V SOT23; ICLN: TF_N_BSR802N_3A7_20V_A001
footprint SOT-23
pins: 1 G, 2 S, 3 D

## TF_N_BSS123_0A2_100V_A001
designator T?, comment BSS123
MOSFET-N 200mA 100V SOT23; ICLN: TF_N_BSS123_0A2_100V_A001
footprint SOT-23
pins: 1 G, 2 S, 3 D

## TF_N_IPTC014N08NM5_A001
designator T?, comment IPTC014N08NM5
N-Channel 80-V 300A; ICLN: TF_N_IPTC014N08NM5_A001
footprint HDSOP-16_v1 (infinion)
pins: 1 D, 2 D, 3 D, 4 D, 5 D, 6 D, 7 D, 8 G, 9 D, 10 S, 11 S, 12 S, 13 S, 14 S, 15 S, 16 S

## TF_N_IPTC014N08NM5_A002
designator T?, comment IPTC014N08NM5
N-Channel 80-V 300A; ICLN: TF_N_IPTC014N08NM5_A001
footprint HDSOP-16_v1 (infinion)
pins: 1 S, 8 G, 9 D

## TF_N_LSIC1MO120E0120_18A_1200V_A001
designator T?, comment LSIC1MO120E0120
POW mosfet; ITSN: TF_N_LSIC1MO120E0120_18A_1200V_A001
footprint TO-274-3V (to-274-3V)
pins: 1 G, 2 D, 3 S

## TF_N_LSIC1MO120E0120_18A_1200V_N001
designator T?, comment LSIC1MO120E0120
POW mosfet; ITSN: TF_N_LSIC1MO120E0120_18A_1200V_N001
footprint TO-274-3V-45 (to-274-3V 45 degry)
pins: 1 G, 2 D, 3 S

## TF_N_NX7002_0A12_60V_A001
designator T?, comment NX7002
MOSFET-N 120mA 60V SOT23; ITSN: TF_N_NX7002_0A12_60V_A001
footprint SOT-23
pins: 1 G, 2 S, 3 D

## TF_N_PSMN018-100PSF_TO220_A001
designator T?, comment PSMN018-100PSF
100V/50A 15mOhmm TO220; ICLN: TF_N_PSMN018_TO220_A001
footprint TO220_h_2mm_v1 (TO220 horizontal 2mm PCB)
pins: 1 G, 2 D, 3 S

## TF_N_STP110N10_TO220_A001
designator T?, comment STP110N10F7
100V/100A 8.5mOhmm TO220; ICLN: TF_N_STP110N10F7_TO220_A001
footprint TO220_h_2mm_v1 (TO220 horizontal 2mm PCB)
pins: 1 G, 2 D, 3 S

## TF_N_YJM04N10A_SOT223_A001
designator T?, comment YJM04N10A
100V/4A 120mOhmm @ 4V5; ITSN: TF_N_YJM04N10A_SOT223_A001
footprint SOT-223
pins: 1 G, 2 D, 3 S

## TF_P_40A_20V_A001
designator T?, comment AON7407
P-MOS 40A 20V Low Vgsth. AON7407; ITSN: TF_P_40A_20V_A001
footprint DFN_3x3_8_EP
pins: 1 S1, 2 S2, 3 S3, 4 G, 5 D1, 6 D2, 7 D3, 8 D4

## TF_P_AOD403_DPACK_A001
designator T?, comment AOD403
P-MOS 30V 55A 8mOhm DPACK; ICLN: TF_P_AOD403_DPACK_A001
footprint DPAK_v1 (D-PAK, 3-Pads, Body 6,20x6,72mm (max), IPC Low Density)
pins: 1 G, 2 D, 3 S

## TF_P_AOD409_DPACK_A001
designator T?, comment AOD409
P-MOS 60V 26A 55mOhm DPACK; ITSN: TF_P_AOD409_DPACK_A001
footprint DPAK_v1 (D-PAK, 3-Pads, Body 6,20x6,72mm (max), IPC Low Density)
pins: 1 G, 2 D, 3 S

## TF_P_BSS83_SOT23_A001
designator T?, comment BSS83
P-MOS 60V 200mA 5Ohm SOT23; ITSN: TF_P_BSS83_SOT23_A001
footprint SOT-23
pins: 1 G, 2 S, 3 D

## TF_P_DMP4051LK3_A001
designator T?, comment DMP4051LK3
P-MOS 40V 8A 85mOhm TO252; ICLN: TF_P_DMP4051LK3_TO252_A001
footprint DPAK_v1 (D-PAK, 3-Pads, Body 6,20x6,72mm (max), IPC Low Density)
pins: 1 G, 2 D, 3 S

## TF_P_IRFR5505_DPACK_A001
designator T?, comment IRFR5505
P-MOS 55V 18A 110mOhm DPACK; ICLN: TF_P_IRFR5505_DPACK_A001
footprint DPAK_v1 (D-PAK, 3-Pads, Body 6,20x6,72mm (max), IPC Low Density)
pins: 1 G, 2 D, 3 S

## TF_P_RSJ250P10FRA_D2PACK_A001
designator T?, comment RSJ250P10FRA
P-MOS 100V 25A 55mOhm D2PACK; ICLN: TF_P_RSJ250P10FRA_D2PACK_A001
footprint TO263 (D2PACK)
pins: 1 G, 2 D, 3 S

## TF_P_YJL2305A_SOT23_A001
designator T?, comment YJL2305
P-MOS 15V 4A5 62mOhm SOT23; ICLN: TF_P_YJL2305A_SOT23_A001
footprint SOT-23
pins: 1 G, 2 S, 3 D

## TJA1051T/3
designator U?
CAN transiver
footprint SO-8
pins: 1 TxD (in), 2 GND (power), 3 VCC (power), 4 RxD (out), 5 VIO (power), 6 CAN_L, 7 CAN_H, 8 S (in)

## TJA1442AT
designator U?
CAN transciver SO-8; ICLN: IC_CAN_SO8_A001
footprint SO-8
pins: 1 TX (in), 2 GND (power), 3 VCC (power), 4 RX (out), 5 STB (in), 6 CANH, 7 CANL, 8 VIO (power)

## TJA1442ATK
designator U?
CAN transiver HVSON8; ICLN: IC_CAN_HVSON8_A001
footprint HVSON8 (SON, 8-Leads, Body 3,00x3,00mm, Pitch 0,65mm, Thermal Pad 2,40x1,59mm, IPC Low Density)
pins: 1 TX (in), 2 GND (power), 3 VCC (power), 4 RX (out), 5 STB (in), 6 CANH, 7 CANL, 8 VIO (power), 9 EP (power)

## TLPxxx_A001
designator U?, comment TLP1/2xxxx
Digital output transoptor - multi package; ICLN: OCD_MULTI_SMD_A001
footprint SO6_SPECIAL_1 (multi transoptor footprint)
pins: 1 A, 3 K, 4 GND, 5 OUT (out), 6 VCC

## TMC2209_A01
designator U?, comment TMC2209
Stepper Motor Controller. Trinamic 2A / 29V; ICLN: IC_TMC2209_QFN28_A001
footprint QFN28_A01 (Trinamic TMC2209)
pins: 1 OB2, 2 ENN (in), 3 GND (power), 4 CPO, 5 CPI, 6 VCP, 7 SPREAD (in), 8 5VOUT, 9 MS1_AD0 (in), 10 MS1_AD1 (in), 11 DIAG (out), 12 INDEX (out), 13 CLK (in), 14 PDN_UART (io), 15 VCC_IO (power), 16 STEP (in), 17 VREF (in), 18 GND (power), 19 DIR (in), 20 STDBY (in), 21 OA2 (out), 22 VS (power), 23 BRA, 24 OA1 (out), 26 0B1 (out), 27 BRB, 28 VS (power), 29 EP

## TNY284D
designator U?
TinySwitch-4; ICLN: IC_TNY284D_SO8_A001
footprint SO-8C (Power Integration)
pins: 1 EN/UV (in), 2 BP/M (io), 4 D, 5 S, 6 S, 7 S, 8 S

## TNY284K
designator U?
TinySwitch-4; ICLN: IC_TNY284K_ESOP12B_A001
footprint eSOP-12B
pins: 1 EN/UV (in), 2 BP/M (io), 6 D, 7 S, 8 S, 9 S, 10 S, 11 S, 12 S, 13 S

## TNY284P
designator U?
TinySwitch-4; ICLN: IC_TNY284P_PDIP8_A001
footprint pDIP-8C (Power Integration DIP8)
pins: 1 EN/UV (in), 2 BP/M (io), 4 D, 5 S, 6 S, 7 S, 8 S

## TPS6380x
designator U?, comment TPS63805/6
Low Iq, Buck-Boost DC/DC Lo V
footprint DSBGA-15 (BGA, 15-Leads, Body 1,34x2,26mmx0,63mm, Pitch 0,40mm)
pins: A1 EN (in), A2 VIN (power), A3 VIN (power), B1 ~{PS} (in), B2 L1, B3 L1, C1 AGND (power), C2 GND (power), C3 GND (power), D1 FB, D2 L2, D3 L2, E1 PG (oe), E2 VOUT (power), E3 VOUT (power)

## TPS62135
designator U?
3-V to 17-V 4-A Step-Down Converters; ITSN: IC_TPS62135_A001
footprint VQFN-11 (3-V to 17-V 4-A Step-Down Converters)
pins: 1 VIN (power), 2 SW, 3 GND (power), 4 FB2 (in), 5 FB (in), 6 VOS (in), 7 PG (out), 8 EN (in), 9 SS/TR (in), 10 MODE (in), 11 VSEL (in)

## TPS63060
designator U?
Buck-Boost Converter With 2-A Switch Current vIN 2,5-12V; ITSN: IC_TPS63060_PWSON10_A001
footprint PWSON-10
pins: 1 L1, 2 VIN, 3 EN (in), 4 PS/SYNC (in), 5 PG (out), 6 VOUX, 7 GND, 8 FB (in), 9 VOUT, 10 L2, EP1, EP2, EP3, EP4, EP5, EP6, EP7, EP8, EP9

## TPS63070
designator U?
ITSN: IC_TPS63070_VQFN_A001
footprint VQFN-15 (TI VQFN power package)
pins: 1 PS/S (in), 2 PG (out), 3 VAUX, 4 GND, 5 FB (in), 6 FB2 (in), 8 VOUT, 9 L2, 10 PGND, 11 L1, 13 VIN, 14 EN (in), 15 VSEL (in)

## TS3021_SOT23-5_A001
designator U?, comment TS3021
Rail-to-rail 1.8 V high-speed comparator; ICLN: IC_TS3021_SOT23-5_A001
footprint SOT-23-5
part A pins: 1 1OUT (out), 3 1IN+ (in), 4 1IN- (in)
part B pins: 2 V-, 5 V+ (power)

## TSSP4P38_A01
designator U?, comment TSSP4P38
ICLN: IRREC_TSSP4P38_THT_A001
footprint TSSP4P38 (Vishay)
pins: 1 VOUT (out), 2 GND (power), 3 VCC (power)

## TSV7721_SOT23_A001
designator U?, comment TSV7721
22 MHz Zero-Drift Op Amps,  Rail-to-Rail Output; ICLN: IC_TSV7721_SOT23_A001
footprint SOT-23-5
part A pins: 1 1OUT (out), 3 1IN+ (in), 4 1IN- (in)
part B pins: 2 V-, 5 V+ (power)

## US2M_A001
designator D?, comment US2M
2A 1kV DO214AA 75ns; ITSN: DSW_2A_1kV_A001
footprint DO214AA
pins: 1 A, 2 K

## VIPER013LS
designator U?, comment VIPer013LS
VIPer01 AC/DC 360 mA 60kHz; ITSN: IC_VIPER013LS_SSOP10_A001
footprint SSOP-10 (st viper 11 series)
pins: 1 GND (power), 2 VCC (power), 3 DIS (in), 4 FB (in), 5 COMP, 6 DRAIN, 7 DRAIN, 8 DRAIN, 9 DRAIN, 10 DRAIN

## VIPER114LS
designator U?, comment VIPer114LSTR
VIPer11 AC/DC 480mA 60kHz; ITSN: IC_VIPER114L_SSOP10_A001
footprint SSOP-10 (st viper 11 series)
pins: 1 GND (power), 2 VCC (power), 3 DIS (in), 4 FB (in), 5 COMP, 6 DRAIN, 7 DRAIN, 8 DRAIN, 9 DRAIN, 10 DRAIN

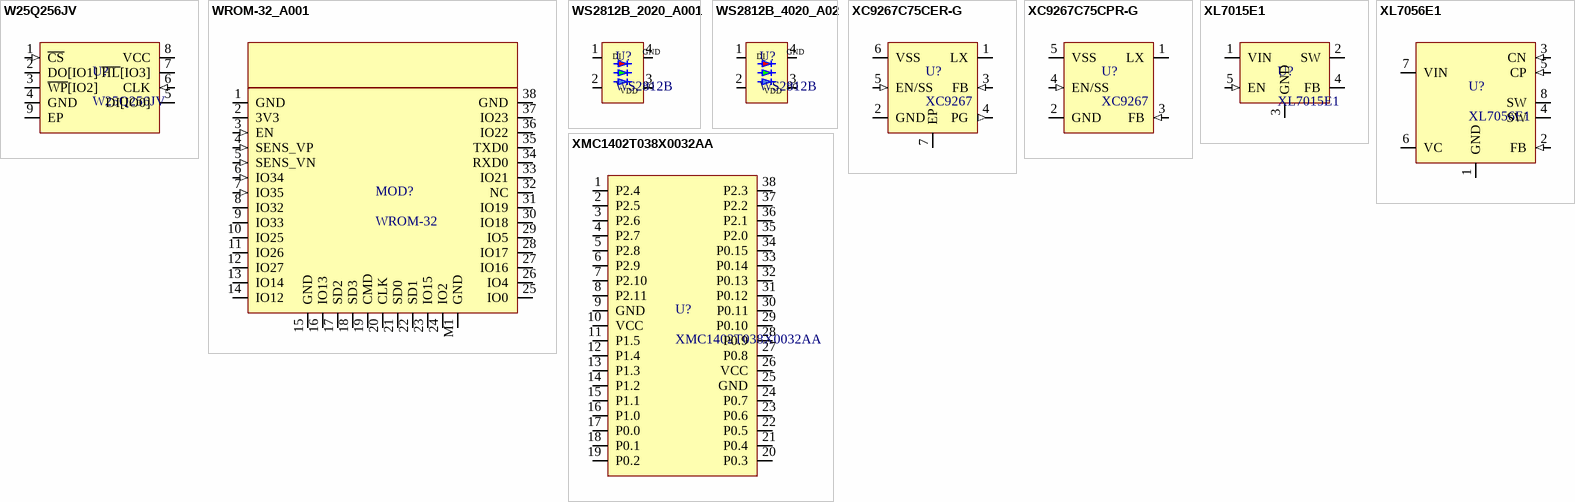
[diagram p11: symbols W25Q256JV to XMC1402T038X0032AA]

## W25Q256JV
designator U?
256Mb QSPI 3V3; ICLN: IC_W25Q256JVEIQ_WSON-8_A001
footprint WSON-8 (Flash)
pins: 1 ~{CS} (in), 2 DO[IO1] (io), 3 ~{WP}[IO2] (io), 4 GND (power), 5 DI[IO0] (io), 6 CLK (in), 7 ~{HL}[IO3] (io), 8 VCC (power), 9 EP

## WROM-32_A001
designator MOD?, comment WROM-32
ITSN: MOD_WROM32_A001
footprint WROM-32
pins: 1 GND (power), 2 3V3 (power), 3 EN (in), 4 SENS_VP (in), 5 SENS_VN (in), 6 IO34 (in), 7 IO35 (in), 8 IO32 (io), 9 IO33 (io), 10 IO25 (io), 11 IO26 (io), 12 IO27 (io), 13 IO14 (io), 14 IO12 (io), 15 GND (power), 16 IO13 (io), 17 SD2 (io), 18 SD3 (io), 19 CMD (io), 20 CLK (io), 21 SD0 (io), 22 SD1 (io), 23 IO15 (io), 24 IO2 (io), 25 IO0 (io), 26 IO4 (io), 27 IO16 (io), 28 IO17 (io), 29 IO5 (io), 30 IO18 (io), 31 IO19 (io), 32 NC, 33 IO21 (io), 34 RXD0 (io), 35 TXD0 (io), 36 IO22 (io), 37 IO23 (io), 38 GND (power), M1 GND

## WS2812B_2020_A001
designator U?, comment WS2812B
ICLN: IC_WS2812B_2020_A001
footprint WS2812B_2020_v1 (2020 WS2812)
pins: 1 DI (in), 2 VDD (power), 3 DO (out), 4 GND (power)

## WS2812B_4020_A02
designator U?, comment WS2812B
SMD 4020 RGB LED with controller; ICLN: IC_WS2812B_4020_A02
footprint WS2812_4020 (LED side 2x4mm)
pins: 1 DI (in), 2 VDD (power), 3 DO (out), 4 GND (power)

## XC9267C75CER-G
designator U?, comment XC9267
36V Operation 600mA Synchronous Step-Down DC/DC Converters 1.2MHz; ICLN: IC_XC9267C75CER-G_USP-6C_A001
footprint USP-6C (Torex)
pins: 1 LX, 2 GND (power), 3 FB (in), 4 PG (out), 5 EN/SS (in), 6 VSS (power), 7 EP

## XC9267C75CPR-G
designator U?, comment XC9267
36V Operation 600mA Synchronous Step-Down DC/DC Converters 1.2MHz; ICLN: IC_XC9267C75CPR-G_SOT89-5_A001
footprint SOT89-5
pins: 1 LX, 2 GND (power), 3 FB (in), 4 EN/SS (in), 5 VSS (power)

## XL7015E1
designator U?
80V buck converter 150kHz; ICLN: IC_XL7015_TO252-5_A001
footprint TO252-5L (XL7015E1)
pins: 1 VIN, 2 SW, 3 GND, 4 FB, 5 EN (in)

## XL7056E1
designator U?
DC/DC step down 90V
footprint TO263-7
pins: 1 GND (power), 2 FB (in), 3 CN (in), 4 SW, 5 CP (in), 6 VC, 7 VIN (power), 8 SW

## XMC1402T038X0032AA
designator U?
XMC1402T038X0032AA 32k/8k 32pin; ICLN: IC_XMC1402-T038X0032_TSSOP38_A001
footprint TSSOP-38 (TSSOP, 38-Leads, Body 9.70x4.40mm, Pitch 0.50mm, IPC Low Density)
pins: 1 P2.4 (io), 2 P2.5 (io), 3 P2.6 (io), 4 P2.7 (io), 5 P2.8 (io), 6 P2.9 (io), 7 P2.10 (io), 8 P2.11 (io), 9 GND (power), 10 VCC (power), 11 P1.5 (io), 12 P1.4 (io), 13 P1.3 (io), 14 P1.2 (io), 15 P1.1 (io), 16 P1.0 (io), 17 P0.0 (io), 18 P0.1 (io), 19 P0.2 (io), 20 P0.3 (io), 21 P0.4 (io), 22 P0.5 (io), 23 P0.6 (io), 24 P0.7 (io), 25 GND (power), 26 VCC (power), 27 P0.8 (io), 28 P0.9 (io), 29 P0.10 (io), 30 P0.11 (io), 31 P0.12 (io), 32 P0.13 (io), 33 P0.14 (io), 34 P0.15 (io), 35 P2.0 (io), 36 P2.1 (io), 37 P2.2 (io), 38 P2.3 (io)